# Altium footprint library D12.5_H20_P5.08mm_CAP_THT.PcbLib: 1 footprints
Each footprint in its own frame and in the unit in brackets; x right, y up, seen from the top. Pads: shape width x height; smd on the part's side, far side on the other; paste and mask are expansions set on the pad; w line width, h text height; cw(c..) or ccw(c..) is an arc to the next point about the centre after c.
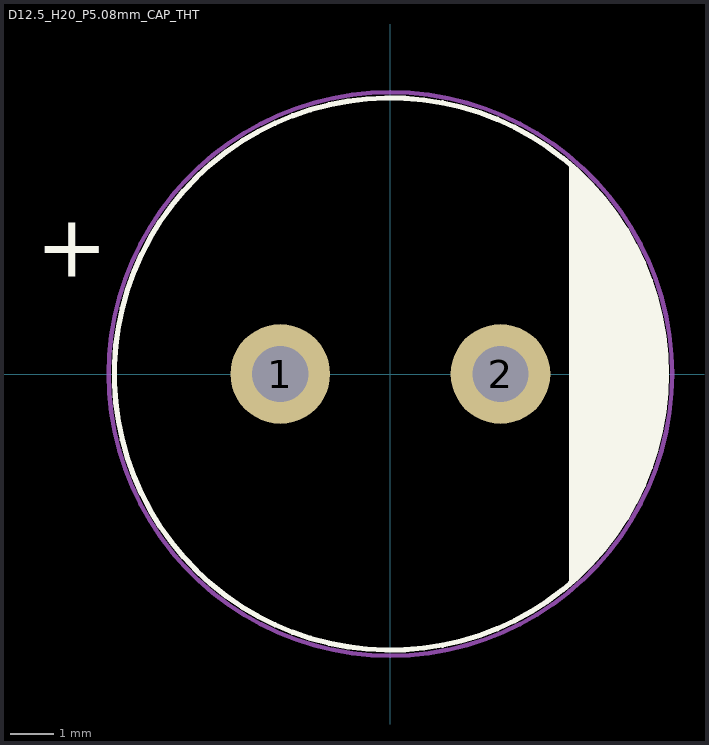
[diagram p0: the footprint, top view; thin cyan lines are the x and y axes]

## D12.5_H20_P5.08mm_CAP_THT [mm] "D12.5_H20_P5.08mm_CAP_THT"
pads (2):
  round 2.3 hole 1.3: 1(-2.54,0) 2(2.54,0)
Top Overlay:
  circle w0.12: c0,0 r6.37
  region: 4.147,-4.811 4.405,-4.587 4.871,-4.088 5.281,-3.542 5.631,-2.956 5.915,-2.335 6.132,-1.688 6.278,-1.021 6.353,-0.342 6.354,0.341 6.282,1.02 6.138,1.687 5.924,2.336 5.641,2.957 5.294,3.545 4.886,4.093 4.422,4.593 4.164,4.817
  lines w0.1: 4.147,-4.811 ccw(c-0.018,0.011) 4.164,4.817 4.164,-4.821
  text "+" at -8.18,1.754 h2.5
Mechanical 1:
  circle w0.1: c0,0 r6.5
  text ".Designator" at 0,0.376 h2
  text "+" at -8.18,1.754 h2.5
Mechanical 15:
  text "+" at -0.666,-1 h2
3D body "cpol-v_p5_d12-5_h20.stp": height 20.01, standoff -2.8, extent -6.238,-6.25 6.249,6.25